# Altium footprint library Footprint_Diode.PcbLib: 6 footprints
Each footprint in its own frame and in the unit in brackets; x right, y up, seen from the top. Pads: shape width x height; smd on the part's side, far side on the other; paste and mask are expansions set on the pad; w line width, h text height; cw(c..) or ccw(c..) is an arc to the next point about the centre after c.
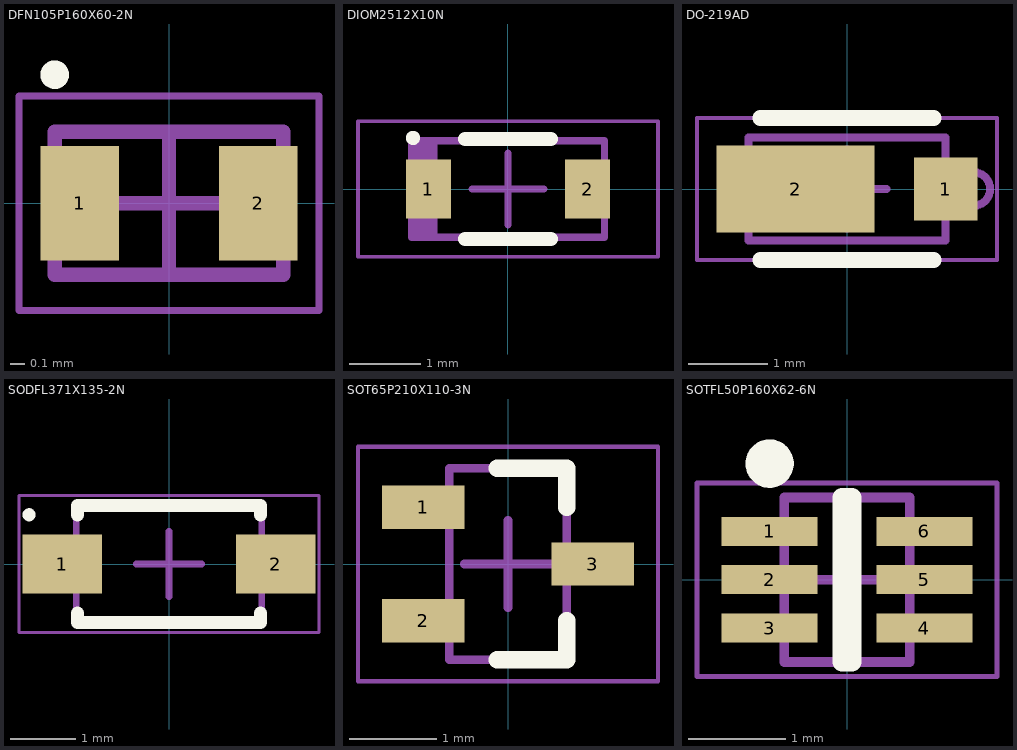
[diagram p0: the footprints below, top view; thin cyan lines are the x and y axes]

## DFN105P160X60-2N [mm] "DFN, 2-Leads, Body 1.00x1.60mm, Pitch 1.05mm, IPC Medium Density"
height 0.6
pads (2):
  rect 0.55x0.8 smd: 1(-0.625,0) 2(0.625,0)
Top Overlay:
  circle w0.1: c-0.8,0.9 r0.05
Top Assembly:
  lines w0.1: -0.8,-0.5 -0.8,0.5 0.8,0.5 0.8,-0.5 -0.8,-0.5
  text ".Designator" at -7.747,-1.27 h0.38
Top Courtyard:
  lines w0.05: -1.05,-0.75 -1.05,0.75 1.05,0.75 1.05,-0.75 -1.05,-0.75
  lines w0.1: -0.5,0 0.5,0 ; 0,-0.5 0,0.5
3D body "DFN105P160X60-2N.step": height 0.6, standoff 0, extent -0.8,-0.5 0.8,0.5

## DIOM2512X10N [mm] "Molded Diode, 2-Leads, Body 2.50x1.25mm, IPC Medium Density"
height 1
pads (2):
  rect 0.63x0.83 smd: 1(-1.115,0) 2(1.115,0)
Top Overlay:
  circle w0.1: c-1.33,0.715 r0.05
  lines w0.2: -0.6,-0.7 0.6,-0.7 ; -0.6,0.7 0.6,0.7
Top Assembly:
  rectangle: -1.35,-0.675 -0.987,0.675
  lines w0.1: -1.35,-0.675 1.35,-0.675 1.35,0.675 -1.35,0.675 -1.35,-0.675
  text ".Designator" at -7.747,-1.27 h0.51
Top Courtyard:
  lines w0.05: -2.1,-0.95 2.1,-0.95 2.1,0.95 -2.1,0.95 -2.1,-0.95
  lines w0.1: -0.5,0 0.5,0 ; 0,-0.5 0,0.5
3D body "SOD-323_1P8X1P35_ONS.step": height 0.99, standoff 0, extent -1.346,-0.673 1.346,0.673

## DO-219AD [mm] "DIODE SCHOTTKY 30V 1A MICROSMP"
pads (2):
  rect 0.8x0.8 smd: 1(1.25,0)
  rect 2x1.1 smd: 2(-0.65,0)
Top Overlay:
  lines w0.2: -1.1,-0.9 1.1,-0.9 ; -1.1,0.9 1.1,0.9
Top Assembly:
  circle w0.1: c1.6,0 r0.213
  lines w0.1: -1.25,-0.65 -1.25,0.65 1.25,0.65 1.25,-0.65 -1.25,-0.65
  text ".Designator" at -7.747,-1.27 h0.51
Top Courtyard:
  lines w0.05: -1.9,-0.9 1.9,-0.9 1.9,0.9 -1.9,0.9 -1.9,-0.9
  lines w0.1: -0.5,0 0.5,0 ; 0,-0.5 0,0.5
3D body "MSMP package.STEP": height 0.59, standoff -0.09, extent -1.26,-0.648 1.24,0.652

## SODFL371X135-2N [mm] "SODFL, 2-Leads, Body 1.60x3.71mm, IPC Medium Density"
height 1.35
pads (2):
  rect 1.22x0.91 smd: 1(-1.635,0) 2(1.635,0)
Top Overlay:
  circle w0.1: c-2.145,0.755 r0.05
  lines w0.2: -1.4,-0.755 -1.4,-0.9 1.4,-0.9 1.4,-0.755 ; -1.4,0.755 -1.4,0.9 1.4,0.9 1.4,0.755
Top Assembly:
  lines w0.1: -1.42,-0.9 -1.42,0.9 1.42,0.9 1.42,-0.9 -1.42,-0.9
  text ".Designator" at -7.747,-1.27 h0.51
Top Courtyard:
  lines w0.05: -2.3,-1.05 -2.3,1.05 2.3,1.05 2.3,-1.05 -2.3,-1.05
  lines w0.1: -0.5,0 0.5,0 ; 0,-0.5 0,0.5
3D body "SODFL371X135-2N.step": height 1.35, standoff 0, extent -1.855,-0.9 1.855,0.9

## SOT65P210X110-3N [mm] "SOT23, 3-Leads, Body 2.00x2.10mm, Pitch 0.65mm, IPC Medium Density"
height 1.1
pads (3):
  rect 0.95x0.5 smd: 1(-0.975,0.65) 2(-0.975,-0.65) 3(0.975,0)
Top Overlay:
  lines w0.2: -0.125,-1.1 0.675,-1.1 0.675,-0.65 ; -0.125,1.1 0.675,1.1 0.675,0.65
Top Assembly:
  lines w0.1: -0.675,-1.1 -0.675,1.1 0.675,1.1 0.675,-1.1 -0.675,-1.1
  text ".Designator" at -7.747,-1.27 h0.25
Top Courtyard:
  lines w0.05: -1.725,-1.35 -1.725,1.35 1.725,1.35 1.725,-1.35 -1.725,-1.35
  lines w0.1: -0.5,0 0.5,0 ; 0,-0.5 0,0.5
3D body "SOT65P210X110-3N.step": height 1.1, standoff 0, extent -1.2,-1.1 1.2,1.1

## SOTFL50P160X62-6N [mm] "SOTFL, 6-Leads, Body 1.60x1.60mm, Pitch 0.50mm, IPC Medium Density"
height 0.62
pads (6):
  rect 0.99x0.3 smd: 1(-0.8,0.5) 2(-0.8,0) 3(-0.8,-0.5) 4(0.8,-0.5) 5(0.8,0) 6(0.8,0.5)
Top Overlay:
  circle w0.25: c-0.8,1.2 r0.125
  lines w0.2: -0.05,-0.85 0.05,-0.85 0.05,0.85 -0.05,0.85 -0.05,-0.85
Top Assembly:
  lines w0.1: -0.65,-0.85 -0.65,0.85 0.65,0.85 0.65,-0.85 -0.65,-0.85
  text ".Designator" at -7.747,-1.27 h0.25
Top Courtyard:
  lines w0.05: -1.55,-1 -1.55,1 1.55,1 1.55,-1 -1.55,-1
  lines w0.1: -0.5,0 0.5,0 ; 0,-0.5 0,0.5
3D body "SOTFL50P160X62-6N.step": height 0.62, standoff 0, extent -0.8,-0.848 0.8,0.848